# EAGLE library part MCP3903 (library ZMPLC)
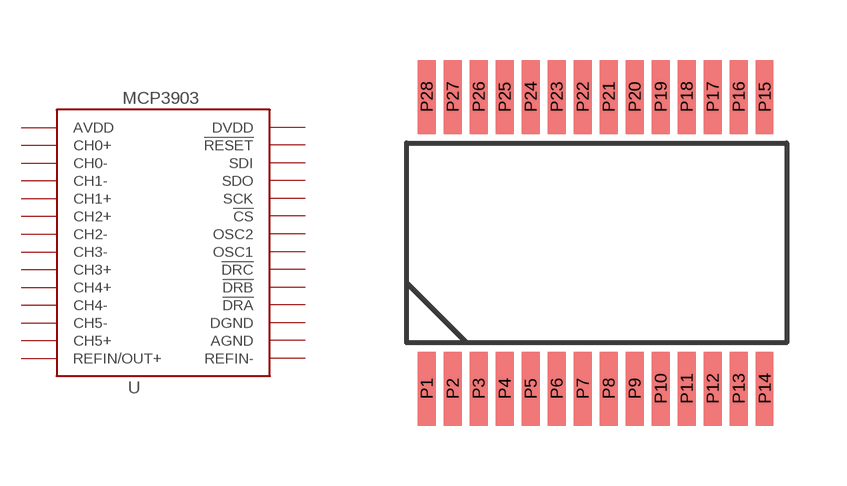
[diagram p16: symbol with the pads of SSOP28; footprint SSOP28]

Designator prefix -

## MCP3903  [SSOP28]
P1  AVDD
P2  CH0+
P3  CH0-
P4  CH1-
P5  CH1+
P6  CH2+
P7  CH2-
P8  CH3-
P9  CH3+
P10  CH4+
P11  CH4-
P12  CH5-
P13  CH5+
P14  REFIN/OUT+
P15  REFIN-
P16  AGND
P17  DGND
P18  !DRA
P19  !DRB
P20  !DRC
P21  OSC1
P22  OSC2
P23  !CS
P24  SCK
P25  SDO
P26  SDI
P27  !RESET
P28  DVDD

## Footprint SSOP28 (pad centres in mm)
smd 0.45 x 1.85: P1 0,-3.65; P2 0.65,-3.65; P3 1.3,-3.65; P4 1.95,-3.65; P5 2.6,-3.65; P6 3.25,-3.65; P7 3.9,-3.65; P8 4.55,-3.65; P9 5.2,-3.65; P10 5.85,-3.65; P11 6.5,-3.65; P12 7.15,-3.65; P13 7.8,-3.65; P14 8.45,-3.65; P15 8.45,3.65; P16 7.8,3.65; P17 7.15,3.65; P18 6.5,3.65; P19 5.85,3.65; P20 5.2,3.65; P21 4.55,3.65; P22 3.9,3.65; P23 3.25,3.65; P24 2.6,3.65; P25 1.95,3.65; P26 1.3,3.65; P27 0.65,3.65; P28 0,3.65